# Altium footprint library SOT143-4.PcbLib: 1 footprints
Each footprint in its own frame and in the unit in brackets; x right, y up, seen from the top. Pads: shape width x height; smd on the part's side, far side on the other; paste and mask are expansions set on the pad; w line width, h text height; cw(c..) or ccw(c..) is an arc to the next point about the centre after c.
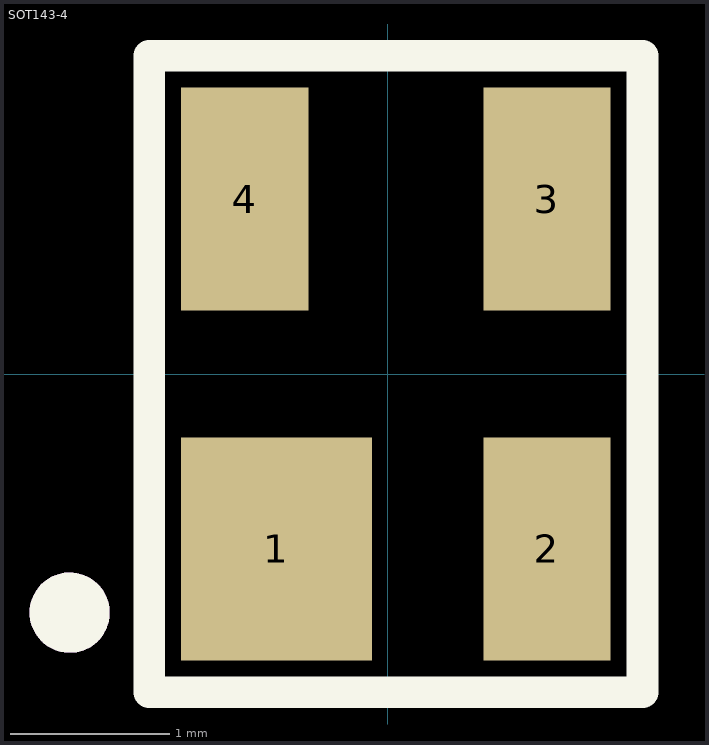
[diagram p0: the footprint, top view; thin cyan lines are the x and y axes]

## SOT143-4 [mm]
pads (4):
  rect 1.2x1.4 smd: 1(-0.7,-1.1)
  rect 0.8x1.4 smd: 2(1,-1.1) 3(1,1.1) 4(-0.9,1.1)
Top Overlay:
  circle w0.254: c-2,-1.5 r0.125
  lines w0.2: -1.5,-2 -1.5,2 1.6,2 1.6,-2 -0.5,-2 -1.5,-2
Top Assembly:
  circle w0.254: c-2,-1.5 r0.125
  lines w0.1: -1.5,-2 -1.5,2 1.6,2 1.6,-2 -1.5,-2
  text "'.Designator'" at 0,0 h0.7
3D body: height 1.3, standoff 0, extent -1.5,-0.7 1.5,0.7